# EAGLE library part MC14013BCPG (library On Semiconductor)
Dual Type D Flip-Flop
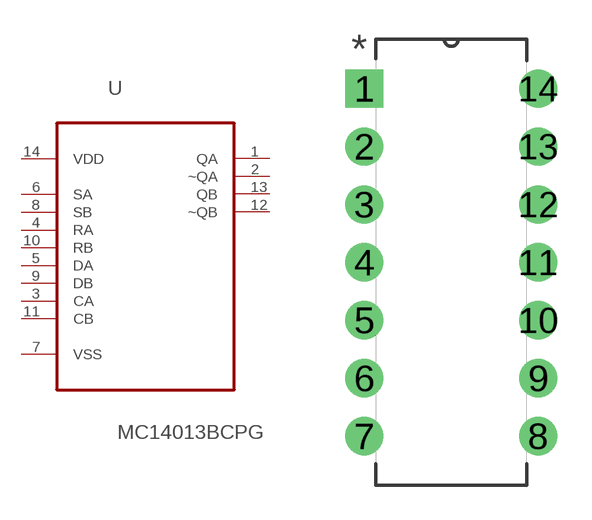
[diagram p203: symbol with the pads of DIP254P762X469-14; footprint DIP254P762X469-14]

Designator prefix U

## MC14013BCPG (MPN: MC14013BCPG; OC_FARNELL: 9665471; OC_NEWARK: 88H4713; PACKAGE: PDIP-14; SUPPLIER: On Semiconductor)  [DIP254P762X469-14]
1  QA  out
2  ~QA  out
3  CA  in
4  RA  in
5  DA  in
6  SA  in
7  VSS  pwr
8  SB  in
9  DB  in
10  RB  in
11  CB  in
12  ~QB  out
13  QB  out
14  VDD  pwr

## Footprint DIP254P762X469-14 (pad centres in mm)
drill 1.118 square: 1 -7.62,15.24
drill 1.118: 2 -7.62,12.7; 3 -7.62,10.16; 4 -7.62,7.62; 5 -7.62,5.08; 6 -7.62,2.54; 7 -7.62,0; 8 0,0; 9 0,2.54; 10 0,5.08; 11 0,7.62; 12 0,10.16; 13 0,12.7; 14 0,15.24